# Altium footprint library 3296W.PcbLib: 1 footprints
Each footprint in its own frame and in the unit in brackets; x right, y up, seen from the top. Pads: shape width x height; smd on the part's side, far side on the other; paste and mask are expansions set on the pad; w line width, h text height; cw(c..) or ccw(c..) is an arc to the next point about the centre after c.
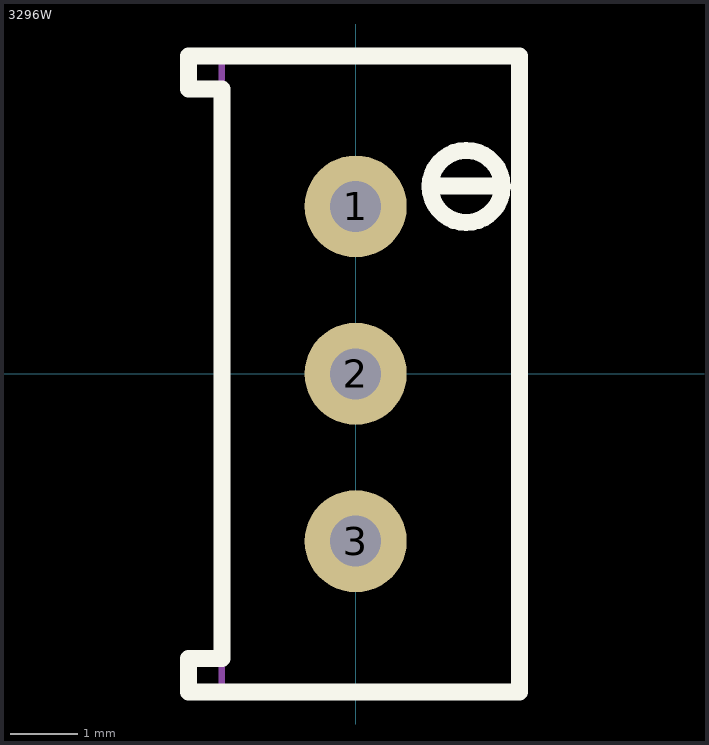
[diagram p0: the footprint, top view; thin cyan lines are the x and y axes]

## 3296W [mil]
height 35.43
pads (3):
  round 60 hole 30: 1(0,98.42) 2(0,0) 3(0,-98.42)
Top Overlay:
  lines w10: 50,110.39 65,110.39 ; 86.2,109.99 cw(c64.99,110.19) 86.2,110.4 ; 96.46,-187.22 -96.46,-187.22 -98.42,-187.22 -98.42,-167.52 -78.74,-167.52 -78.74,167.52 -98.42,167.52 -98.42,187.01 -96.46,187.01 96.46,187.01 96.46,-187.01 ; 65,110.39 80,110.39 65,110.39
Top Assembly:
  lines w3.94: -78.74,-187.01 -78.74,186.02 96.46,186.02 96.46,-187.01 -78.74,-187.01
  text "'.Designator'" at -0.98,0 h27.56
Mechanical 15:
  lines w0.1: -0.99,15.33 -0.97,15.35
3D body "User Library-3296W.STEP": height 454.72, standoff -62.99, extent -94.49,-187.6 94.49,187.6